# Altium integrated library Unified transformers.IntLib: 7 symbols
Pins are listed as number, name and electrical type; pins without a type are passive.

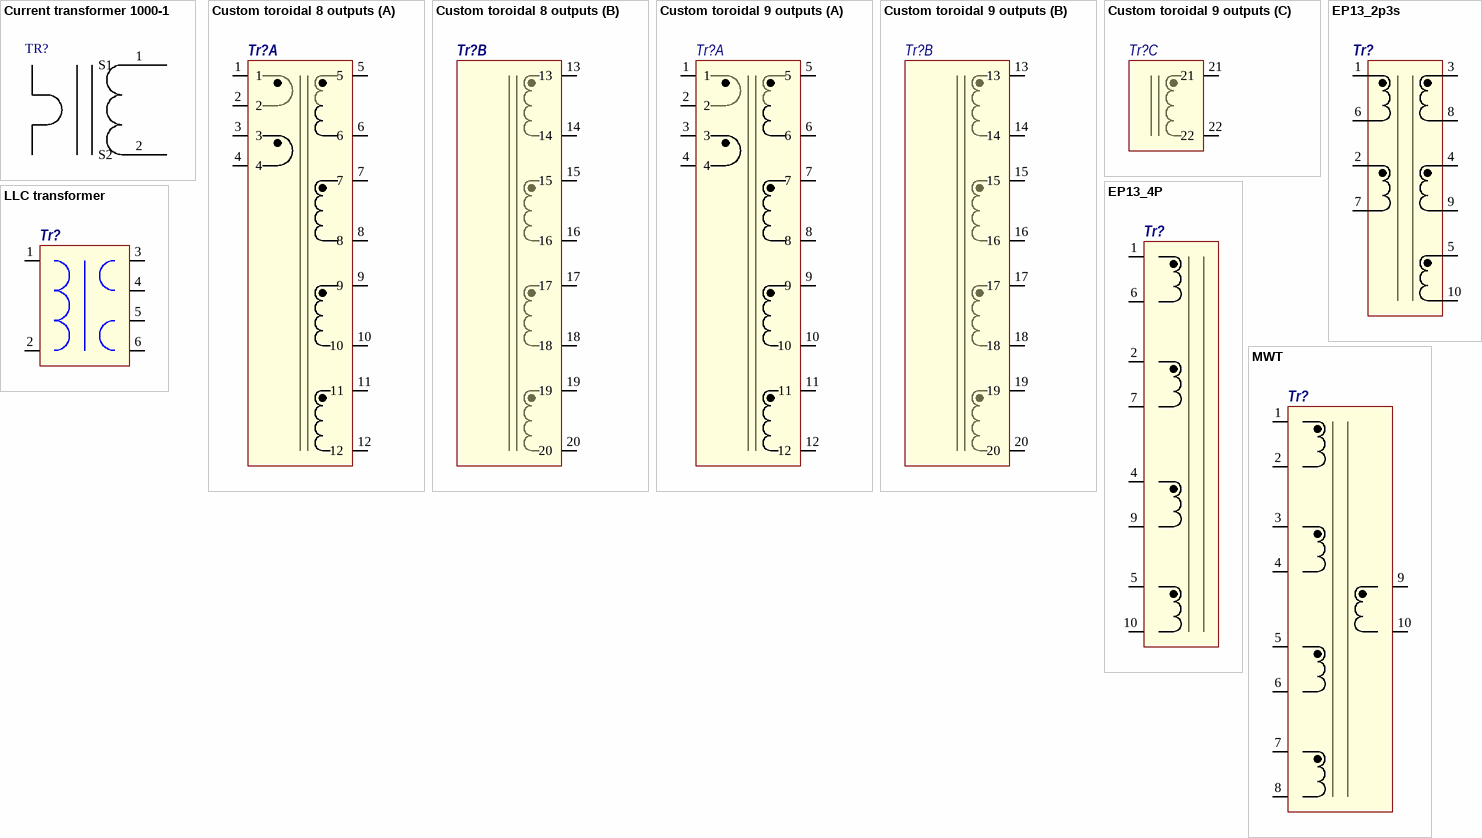
[diagram p0: symbols Current transformer 1000-1 to MWT]

## Current transformer 1000-1
designator TR?  (value not drawn)
Current transformer
footprint Current transformer
pins: 1 S1, 2 S2

## Custom toroidal 8 outputs
designator Tr?  (value not drawn)
Transformer for multioutput forward converter
footprint CFT 8 outputs
part A pins: 1, 2, 3, 4, 5, 6, 7, 8, 9, 10, 11, 12
part B pins: 13, 14, 15, 16, 17, 18, 19, 20

## Custom toroidal 9 outputs
designator Tr?  (value not drawn)
footprint CFT 9 outputs
part A pins: 1, 2, 3, 4, 5, 6, 7, 8, 9, 10, 11, 12
part B pins: 13, 14, 15, 16, 17, 18, 19, 20
part C pins: 21, 22

## EP13_2p3s
designator Tr?  (value not drawn)
footprint EP13var2
pins: 1, 2, 3, 4, 5, 6, 7, 8, 9, 10

## EP13_4P
designator Tr?  (value not drawn)
footprint EP13
pins: 1, 2, 4, 5, 6, 7, 9, 10

## LLC transformer
designator Tr?  (value not drawn)
Custom wire-wound resonant transformer
footprint Custom LLC
pins: 1, 2, 3, 4, 5, 6

## MWT
designator Tr?  (value not drawn)
footprint MWT
pins: 1, 2, 3, 4, 5, 6, 7, 8, 9, 10